# Altium footprint library PCB - DIODES - DIODES INC SDT10A45P5.PCBLIB: 1 footprints
Each footprint in its own frame and in the unit in brackets; x right, y up, seen from the top. Pads: shape width x height; smd on the part's side, far side on the other; paste and mask are expansions set on the pad; w line width, h text height; cw(c..) or ccw(c..) is an arc to the next point about the centre after c.
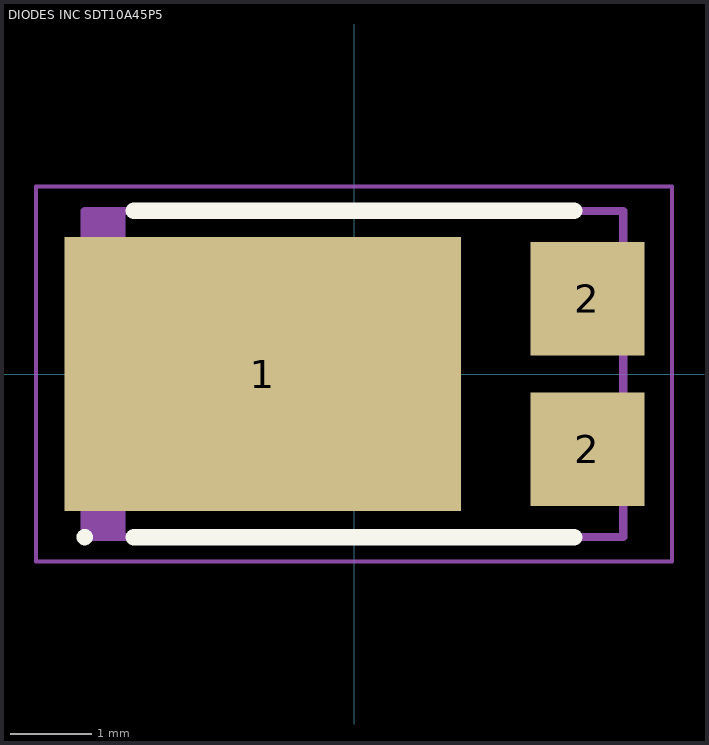
[diagram p0: the footprint, top view; thin cyan lines are the x and y axes]

## DIODES INC SDT10A45P5 [mm] "PowerDI5"
height 1.15
pads (3):
  rect 4.86x3.36 smd: 1(-1.12,0)
  rect 1.4x1.39 smd: 2(2.862,-0.92) 2(2.862,0.92)
Top Overlay:
  circle w0.1: c-3.3,-2 r0.05
  lines w0.2: -2.7,-2 2.7,-2 ; -2.7,2 2.7,2
Mechanical 13:
  region: -2.8,2 -3.3,2 -3.3,-2 -2.8,-2
  lines w0.1: -3.3,-2 -3.3,2 3.3,2 3.3,-2 -3.3,-2
Mechanical 15:
  lines w0.05: -3.9,-2.3 -3.9,2.3 3.9,2.3 3.9,-2.3 -3.9,-2.3
  lines w0.1: -0.5,0 0.5,0 ; 0,-0.5 0,0.5
3D body "DIODES INC - PowerDI5.step": height 1.1, standoff 0, extent -3.255,-1.985 3.253,1.985